# Altium footprint library EADOGL128W-6.PcbLib: 1 footprints
Each footprint in its own frame and in the unit in brackets; x right, y up, seen from the top. Pads: shape width x height; smd on the part's side, far side on the other; paste and mask are expansions set on the pad; w line width, h text height; cw(c..) or ccw(c..) is an arc to the next point about the centre after c.
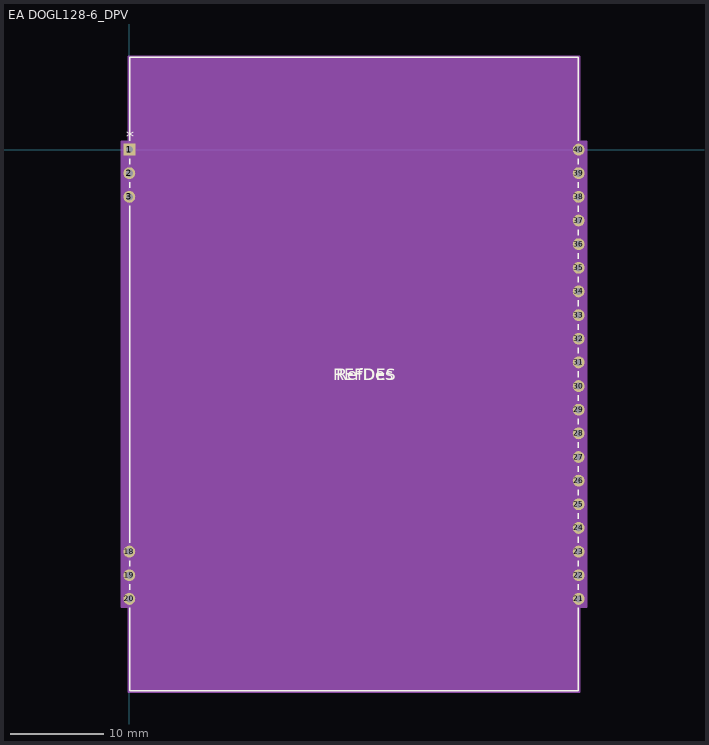
[diagram p0: the footprint, top view; thin cyan lines are the x and y axes]

## EA DOGL128-6_DPV [mil]
pads (26):
  rect 50x50 / inner round 60 / far side rect 50x50 hole 30 paste-25 mask+0: 1(0,0)
  round 50 / inner round 60 / far side round 50 hole 30 paste-25 mask+0: 2(0,-100) 3(0,-200) 18(0,-1700) 19(0,-1800) 20(0,-1900) 21(1900,-1900) 22(1900,-1800) 23(1900,-1700) 24(1900,-1600) 25(1900,-1500) 26(1900,-1400) 27(1900,-1300) 28(1900,-1200) 29(1900,-1100) 30(1900,-1000) 31(1900,-900) 32(1900,-800) 33(1900,-700) 34(1900,-600) 35(1900,-500) 36(1900,-400) 37(1900,-300) 38(1900,-200) 39(1900,-100) 40(1900,0)
Top Overlay:
  lines w6: 1,-1938.09 1,-2289.5 1899,-2289.5 1899,-1938.09 ; 1,-1861.91 1,-1838.09 ; 1,-1761.91 1,-1738.09 ; 1,-1661.91 1,-238.09 ; 1,-161.91 1,-138.09 ; 1,-61.91 1,-38.1 ; 1,38.1 1,389.5 1899,389.5 1899,38.09 ; 1899,-1861.91 1899,-1838.09 ; 1899,-1761.91 1899,-1738.09 ; 1899,-1661.91 1899,-1638.09 ; 1899,-1561.91 1899,-1538.09 ; 1899,-1461.91 1899,-1438.09 ; 1899,-1361.91 1899,-1338.09 ; 1899,-1261.91 1899,-1238.09 ; 1899,-1161.91 1899,-1138.09 ; 1899,-1061.91 1899,-1038.09 ; 1899,-961.91 1899,-938.09 ; 1899,-861.91 1899,-838.09 ; 1899,-761.91 1899,-738.09 ; 1899,-661.91 1899,-638.09 ; 1899,-561.91 1899,-538.09 ; 1899,-461.91 1899,-438.09 ; 1899,-361.91 1899,-338.09 ; 1899,-261.91 1899,-238.09 ; 1899,-161.91 1899,-138.09 ; 1899,-61.91 1899,-38.09
  text "*" at -12.5,30 h50
  text "RefDes" at 875,-975 h50
  text "REFDES" at 862.5,-975 h50
Mechanical 13:
  lines w0: 938,384.5 ccw(c950,384.5) 962,384.5
  lines w1: -15,-1915 -15,-1885 6,-1885 6,-1915 -15,-1915 ; -15,-1815 -15,-1785 6,-1785 6,-1815 -15,-1815 ; -15,-1715 -15,-1685 6,-1685 6,-1715 -15,-1715 ; -15,-215 -15,-185 6,-185 6,-215 -15,-215 ; -15,-115 -15,-85 6,-85 6,-115 -15,-115 ; -15,-15 -15,15 6,15 6,-15 -15,-15 ; 6,-2284.5 1894,-2284.5 1894,384.5 6,384.5 6,-2284.5 ; 1894,-1915 1894,-1885 1915,-1885 1915,-1915 1894,-1915 ; 1894,-1815 1894,-1785 1915,-1785 1915,-1815 1894,-1815 ; 1894,-1715 1894,-1685 1915,-1685 1915,-1715 1894,-1715 ; 1894,-1615 1894,-1585 1915,-1585 1915,-1615 1894,-1615 ; 1894,-1515 1894,-1485 1915,-1485 1915,-1515 1894,-1515 ; 1894,-1415 1894,-1385 1915,-1385 1915,-1415 1894,-1415 ; 1894,-1315 1894,-1285 1915,-1285 1915,-1315 1894,-1315 ; 1894,-1215 1894,-1185 1915,-1185 1915,-1215 1894,-1215 ; 1894,-1115 1894,-1085 1915,-1085 1915,-1115 1894,-1115 ; 1894,-1015 1894,-985 1915,-985 1915,-1015 1894,-1015 ; 1894,-915 1894,-885 1915,-885 1915,-915 1894,-915 ; 1894,-815 1894,-785 1915,-785 1915,-815 1894,-815 ; 1894,-715 1894,-685 1915,-685 1915,-715 1894,-715 ; 1894,-615 1894,-585 1915,-585 1915,-615 1894,-615 ; 1894,-515 1894,-485 1915,-485 1915,-515 1894,-515 ; 1894,-415 1894,-385 1915,-385 1915,-415 1894,-415 ; 1894,-315 1894,-285 1915,-285 1915,-315 1894,-315 ; 1894,-215 1894,-185 1915,-185 1915,-215 1894,-215 ; 1894,-115 1894,-85 1915,-85 1915,-115 1894,-115 ; 1894,-15 1894,15 1915,15 1915,-15 1894,-15
  text "*" at 3.5,-25 h50
  text "RefDes2" at 862.5,-975 h50
Mechanical 15:
  region: 1904,-1935 1935,-1935 1935,35 1904,35 1904,394.5 -4,394.5 -4,35 -35,35 -35,-1935 -4,-1935 -4,-2294.5 1904,-2294.5
  lines w6: -35,-1935 -35,35 -4,35 -4,394.5 1904,394.5 1904,35 1935,35 1935,-1935 1904,-1935 1904,-2294.5 -4,-2294.5 -4,-1935 -35,-1935
3D body "EADOGL128-6_DPV.step": height 115.12, standoff -100, extent -5,-2284.49 1915,384.49